# Altium footprint library SamacSys.PcbLib: 2 footprints
Each footprint in its own frame and in the unit in brackets; x right, y up, seen from the top. Pads: shape width x height; smd on the part's side, far side on the other; paste and mask are expansions set on the pad; w line width, h text height; cw(c..) or ccw(c..) is an arc to the next point about the centre after c.
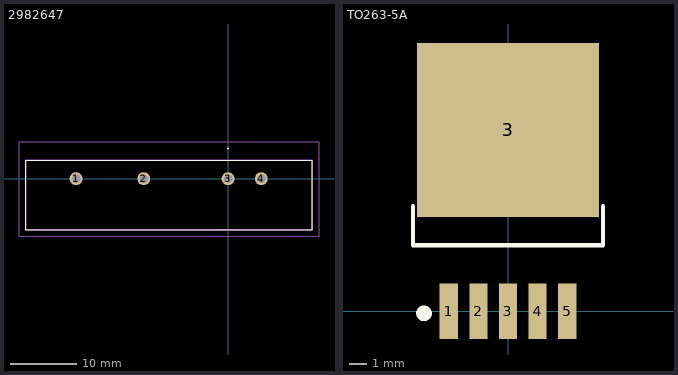
[diagram p0: the footprints below, top view; thin cyan lines are the x and y axes]

## 2982647 [mm]
pads (4):
  round 1.95 hole 1.3: 1(-22.9,0) 2(-12.7,0) 3(0,0) 4(5,0)
Top Overlay:
  lines w0.1: -30.5,-7.7 12.7,-7.7 12.7,2.8 -30.5,2.8 -30.5,-7.7
  lines w0.2: 0,4.5 ccw(c0,4.55) 0,4.6 ; 0,4.5 cw(c0,4.55) 0,4.6 ; 0,4.5 ccw(c0,4.55) 0,4.6
Mechanical 13:
  lines w0.2: -30.5,-7.7 12.7,-7.7 12.7,2.8 -30.5,2.8 -30.5,-7.7
Mechanical 15:
  lines w0.1: -31.5,-8.7 13.7,-8.7 13.7,5.6 -31.5,5.6 -31.5,-8.7
3D body "2982647.stp": height 25.5, standoff -5, extent -30.5,-7.7 12.7,2.8

## TO263-5A [mm] "263，5脚晶体管"
pads (6):
  rect 1.05x3.2 smd: 1(-3.4,0) 2(-1.7,0) 3(0,0) 4(1.7,0) 5(3.4,0)
  rect 10.45x10 smd: 3(0,10.414)
Top Overlay:
  circle w0.5: c-4.826,-0.127 r0.2
  lines w0.254: -5.461,6.037 -5.461,3.787 5.461,3.787 5.461,6.037
3D body "TO263-5A.STEP": height 4.5, standoff 0, extent -5,-0.01 5,13.317